# EAGLE library part LSF0204QPWRQ1 (library pepin)
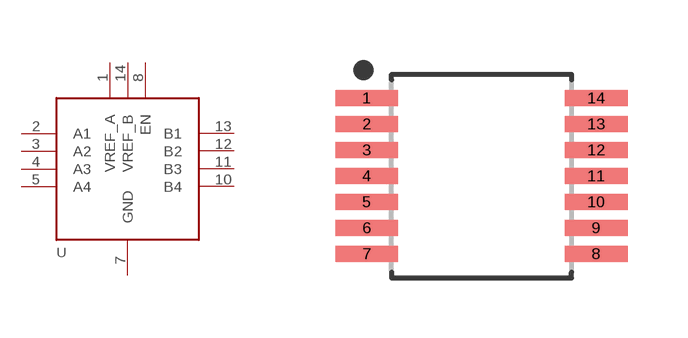
[diagram p14: symbol with the pads of TSSOP14; footprint TSSOP14]

Designator prefix U

## LSF0204QPWRQ1TSSOP-14  [TSSOP14]
1  VREF_A  pwr
2  A1
3  A2
4  A3
5  A4
7  GND  pwr
8  EN
10  B4
11  B3
12  B2
13  B1
14  VREF_B  pwr

## Footprint TSSOP14 (pad centres in mm)
14-SOP, 0.65 mm pitch, 6.40 mm span, 5.00 X 4.40 X 1.20 mm body 14-pin SOP package with 0.65 mm pitch, 6.40 mm span with body size 5.00 X 4.40 X 1.20 mm
smd 1.572 x 0.407: 1 -2.872,1.95; 2 -2.872,1.3; 3 -2.872,0.65; 4 -2.872,0; 5 -2.872,-0.65; 6 -2.872,-1.3; 7 -2.872,-1.95; 8 2.872,-1.95; 9 2.872,-1.3; 10 2.872,-0.65; 11 2.872,0; 12 2.872,0.65; 13 2.872,1.3; 14 2.872,1.95